# Altium integrated library Connectors$.IntLib: 58 symbols
Pins are listed as number, name and electrical type; pins without a type are passive.

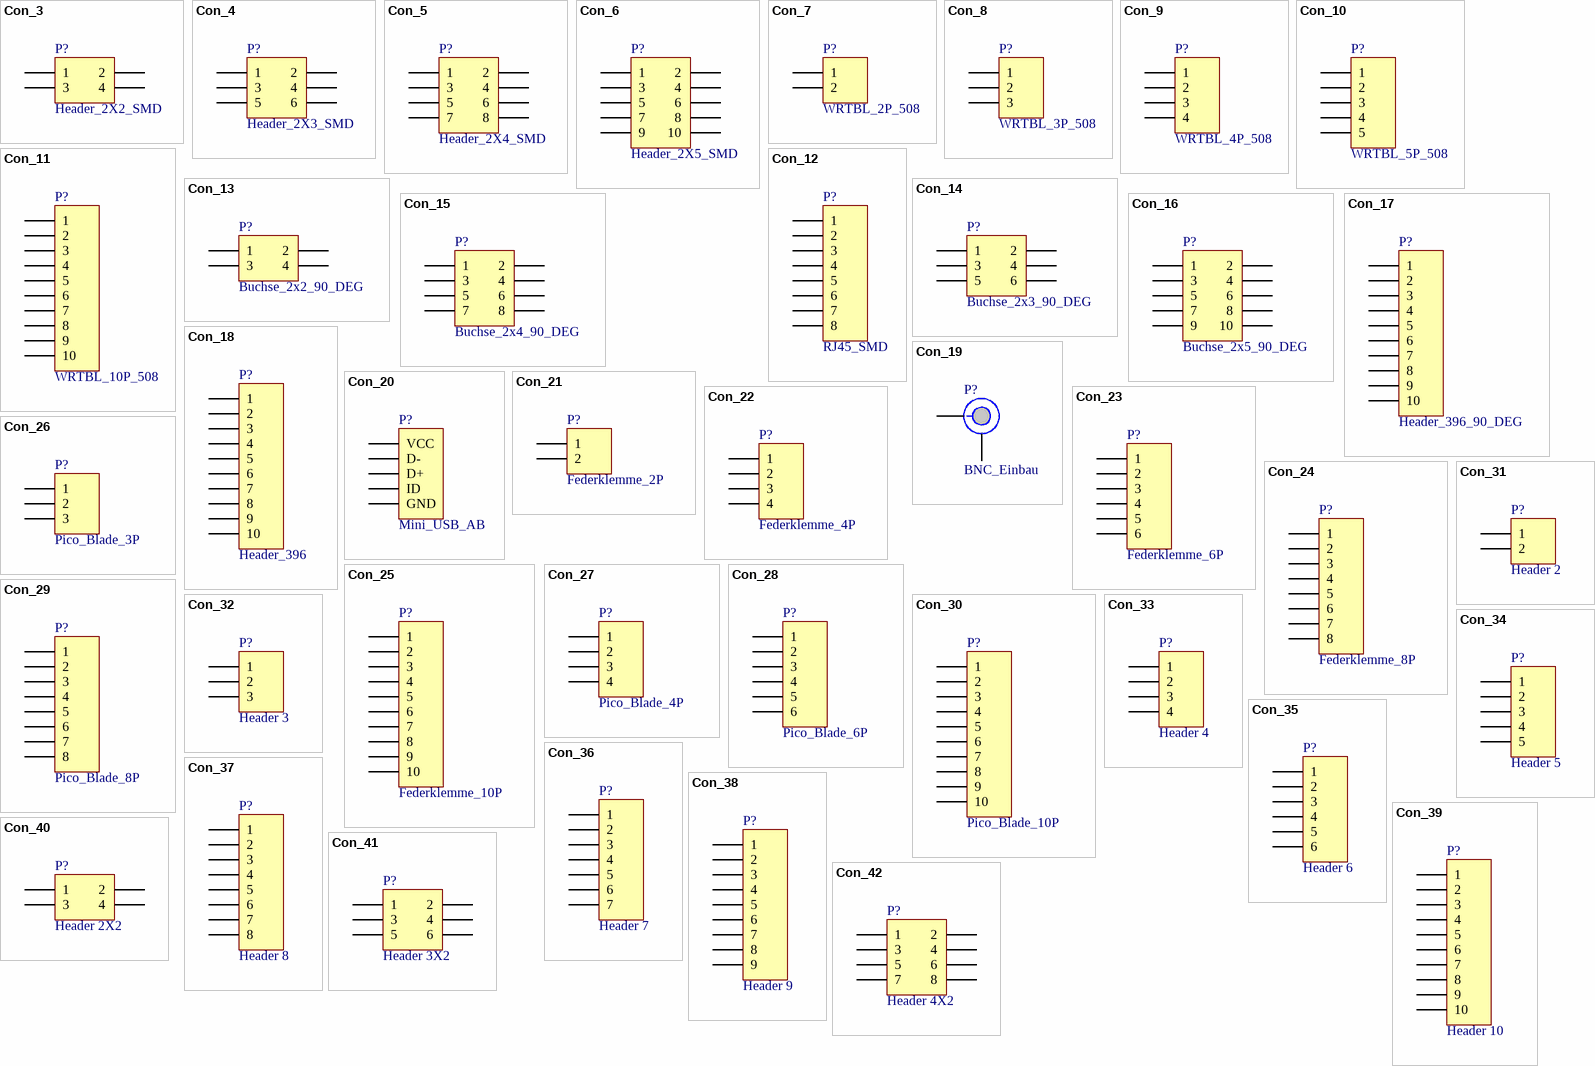
[diagram p0: symbols Con_3 to Con_42]

## Con_3
designator P?, comment Header_2X2_SMD
QR: 0; UID: Con_3; Name: Header_2X2_SMD; mounting: SMD; Pins: 4
footprint Header_2X2_SMD
pins: 1, 2, 3, 4

## Con_4
designator P?, comment Header_2X3_SMD
QR: 0; UID: Con_4; Name: Header_2X3_SMD; mounting: SMD; Pins: 6
footprint Header_2X3_SMD
pins: 1, 2, 3, 4, 5, 6

## Con_5
designator P?, comment Header_2X4_SMD
QR: 0; UID: Con_5; Name: Header_2X4_SMD; mounting: SMD; Pins: 8
footprint Header_2X4_SMD
pins: 1, 2, 3, 4, 5, 6, 7, 8

## Con_6
designator P?, comment Header_2X5_SMD
RS_number: 673-7332; QR: 0; UID: Con_6; Name: Header_2X5_SMD; Name_Hyperlink: Header 2x5-polig 5.8mm Bergstick; ComponentLink1URL: #NAME?; mounting: SMD; Pins: 10
footprint Header_2X5_SMD
pins: 1, 2, 3, 4, 5, 6, 7, 8, 9, 10

## Con_7
designator P?, comment WRTBL_2P_508
RS_number: 193-0586; QR: 0; UID: Con_7; Name: WRTBL_2P_508; Name_Hyperlink: Printklemme 5,08mm 2-polig; ComponentLink1URL: #NAME?; mounting: THT; Pins: 2
footprint WRTBL_2P_508
pins: 1, 2

## Con_8
designator P?, comment WRTBL_3P_508
QR: 0; UID: Con_8; Name: WRTBL_3P_508; mounting: THT; Pins: 3
footprint WRTBL_3P_508
pins: 1, 2, 3

## Con_9
designator P?, comment WRTBL_4P_508
QR: 0; UID: Con_9; Name: WRTBL_4P_508; mounting: THT; Pins: 4
footprint WRTBL_4P_508
pins: 1, 2, 3, 4

## Con_10
designator P?, comment WRTBL_5P_508
QR: 0; UID: Con_10; Name: WRTBL_5P_508; mounting: THT; Pins: 5
footprint WRTBL_5P_508
pins: 1, 2, 3, 4, 5

## Con_11
designator P?, comment WRTBL_10P_508
QR: 0; UID: Con_11; Name: WRTBL_10P_508; mounting: THT; Pins: 10
footprint WRTBL_10P_508
pins: 1, 2, 3, 4, 5, 6, 7, 8, 9, 10

## Con_12
designator P?, comment RJ45_SMD
QR: 0; UID: Con_12; Name: RJ45_SMD; mounting: SMD; Pins: 8
footprint RJ45_SMD
pins: 1, 2, 3, 4, 5, 6, 7, 8

## Con_13
designator P?, comment Buchse_2x2_90_DEG
QR: 0; UID: Con_13; Name: Buchse_2x2_90_DEG; mounting: SMD; Pins: 4
footprint BU_2x2_90_DEG
pins: 1, 2, 3, 4

## Con_14
designator P?, comment Buchse_2x3_90_DEG
QR: 0; UID: Con_14; Name: Buchse_2x3_90_DEG; mounting: SMD; Pins: 6
footprint BU_2x3_90_DEG
pins: 1, 2, 3, 4, 5, 6

## Con_15
designator P?, comment Buchse_2x4_90_DEG
QR: 0; UID: Con_15; Name: Buchse_2x4_90_DEG; mounting: SMD; Pins: 8
footprint BU_2x4_90_DEG
pins: 1, 2, 3, 4, 5, 6, 7, 8

## Con_16
designator P?, comment Buchse_2x5_90_DEG
RS_number: 673-7433; QR: 0; UID: Con_16; Name: Buchse_2x5_90_DEG; Name_Hyperlink: SMD Einbaubuchse 2x5-polig gewinkelt; ComponentLink1URL: #NAME?; mounting: SMD; Pins: 10
footprint BU_2x5_90_DEG
pins: 1, 2, 3, 4, 5, 6, 7, 8, 9, 10

## Con_17
designator P?, comment Header_396_90_DEG
RS_number: 473-593; QR: 0; UID: Con_17; Name: Header_396_90_DEG; Name_Hyperlink: Stiftleiste MFAS156 2,54 10-polig verr.; ComponentLink1URL: #NAME?; mounting: THT; Pins: 10
footprint HDR_396_90_DEG
pins: 1, 2, 3, 4, 5, 6, 7, 8, 9, 10

## Con_18
designator P?, comment Header_396
RS_number: 473-565; QR: 0; UID: Con_18; Name: Header_396; Name_Hyperlink: Stiftleiste MFSS156 2,54 10-polig; ComponentLink1URL: #NAME?; mounting: THT; Pins: 10
footprint HDR_396
pins: 1, 2, 3, 4, 5, 6, 7, 8, 9, 10

## Con_19
designator P?, comment BNC_Einbau
RS_number: 546-4049; QR: 0; UID: Con_19; Name: BNC_Einbau; Name_Hyperlink: BNC Einbau-Buchse 50Ohm; ComponentLink1URL: #NAME?; mounting: THT; Pins: 2
footprint BNC_EINBAU
pins: 0 GND, 1

## Con_20
designator P?, comment Mini_USB_AB
RS_number: 685-0961; QR: 0; UID: Con_20; Name: Mini_USB_AB; Name_Hyperlink: Steckerbuchse Micro-AB USB SMT; ComponentLink1URL: #NAME?; mounting: SMD; Pins: 5
footprint MINI_USB_ZX62-AB-5PA3
pins: 1 VCC, 2 D-, 3 D+, 4 ID, 5 GND

## Con_21
designator P?, comment Federklemme_2P
QR: 0; UID: Con_21; Name: Federklemme_2P; mounting: THT; Pins: 2
footprint FEDERKLEMME_PTSA_2P
pins: 1, 2

## Con_22
designator P?, comment Federklemme_4P
QR: 0; UID: Con_22; Name: Federklemme_4P; mounting: THT; Pins: 4
footprint FEDERKLEMME_PTSA_4P
pins: 1, 2, 3, 4

## Con_23
designator P?, comment Federklemme_6P
QR: 0; UID: Con_23; Name: Federklemme_6P; mounting: THT; Pins: 6
footprint FEDERKLEMME_PTSA_6P
pins: 1, 2, 3, 4, 5, 6

## Con_24
designator P?, comment Federklemme_8P
RS_number: 648-2234; QR: 0; UID: Con_24; Name: Federklemme_8P; Name_Hyperlink: Printklemmenblock PTSA 0,5/ 8-2,5-F; ComponentLink1URL: #NAME?; mounting: THT; Pins: 8
footprint FEDERKLEMME_PTSA_8P
pins: 1, 2, 3, 4, 5, 6, 7, 8

## Con_25
designator P?, comment Federklemme_10P
QR: 0; UID: Con_25; Name: Federklemme_10P; mounting: THT; Pins: 10
footprint FEDERKLEMME_PTSA_10P
pins: 1, 2, 3, 4, 5, 6, 7, 8, 9, 10

## Con_26
designator P?, comment Pico_Blade_3P
QR: 0; UID: Con_26; Name: Pico_Blade_3P; mounting: SMD; Pins: 3
footprint PICO_BLADE_3P
pins: 1, 2, 3

## Con_27
designator P?, comment Pico_Blade_4P
QR: 0; UID: Con_27; Name: Pico_Blade_4P; mounting: SMD; Pins: 4
footprint PICO_BLADE_4P
pins: 1, 2, 3, 4

## Con_28
designator P?, comment Pico_Blade_6P
QR: 0; UID: Con_28; Name: Pico_Blade_6P; mounting: SMD; Pins: 6
footprint PICO_BLADE_6P
pins: 1, 2, 3, 4, 5, 6

## Con_29
designator P?, comment Pico_Blade_8P
QR: 0; UID: Con_29; Name: Pico_Blade_8P; mounting: SMD; Pins: 8
footprint PICO_BLADE_8P
pins: 1, 2, 3, 4, 5, 6, 7, 8

## Con_30
designator P?, comment Pico_Blade_10P
QR: 0; UID: Con_30; Name: Pico_Blade_10P; mounting: SMD; Pins: 10
footprint PICO_BLADE_10P
pins: 1, 2, 3, 4, 5, 6, 7, 8, 9, 10

## Con_31
designator P?, comment Header 2
QR: 0; UID: Con_31; Name: Header 2; mounting: THT; Pins: 1X2
footprint HDR1X2
pins: 1, 2

## Con_32
designator P?, comment Header 3
QR: 0; UID: Con_32; Name: Header 3; mounting: THT; Pins: 1X3
footprint HDR1X3
pins: 1, 2, 3

## Con_33
designator P?, comment Header 4
QR: 0; UID: Con_33; Name: Header 4; mounting: THT; Pins: 1X4
footprint HDR1X4
pins: 1, 2, 3, 4

## Con_34
designator P?, comment Header 5
QR: 0; UID: Con_34; Name: Header 5; mounting: THT; Pins: 1X5
footprint HDR1X5
pins: 1, 2, 3, 4, 5

## Con_35
designator P?, comment Header 6
QR: 0; UID: Con_35; Name: Header 6; mounting: THT; Pins: 1X6
footprint HDR1X6
pins: 1, 2, 3, 4, 5, 6

## Con_36
designator P?, comment Header 7
QR: 0; UID: Con_36; Name: Header 7; mounting: THT; Pins: 1X7
footprint HDR1X7
pins: 1, 2, 3, 4, 5, 6, 7

## Con_37
designator P?, comment Header 8
QR: 0; UID: Con_37; Name: Header 8; mounting: THT; Pins: 1X8
footprint HDR1X8
pins: 1, 2, 3, 4, 5, 6, 7, 8

## Con_38
designator P?, comment Header 9
QR: 0; UID: Con_38; Name: Header 9; mounting: THT; Pins: 1X9
footprint HDR1X9
pins: 1, 2, 3, 4, 5, 6, 7, 8, 9

## Con_39
designator P?, comment Header 10
QR: 0; UID: Con_39; Name: Header 10; mounting: THT; Pins: 1X10
footprint HDR1X10
pins: 1, 2, 3, 4, 5, 6, 7, 8, 9, 10

## Con_40
designator P?, comment Header 2X2
QR: 0; UID: Con_40; Name: Header 2X2; mounting: THT; Pins: 2X2
footprint HDR2X2
pins: 1, 2, 3, 4

## Con_41
designator P?, comment Header 3X2
QR: 0; UID: Con_41; Name: Header 3X2; mounting: THT; Pins: 2X3
footprint HDR2X3
pins: 1, 2, 3, 4, 5, 6

## Con_42
designator P?, comment Header 4X2
QR: 0; UID: Con_42; Name: Header 4X2; mounting: THT; Pins: 2X4
footprint HDR2X4
pins: 1, 2, 3, 4, 5, 6, 7, 8

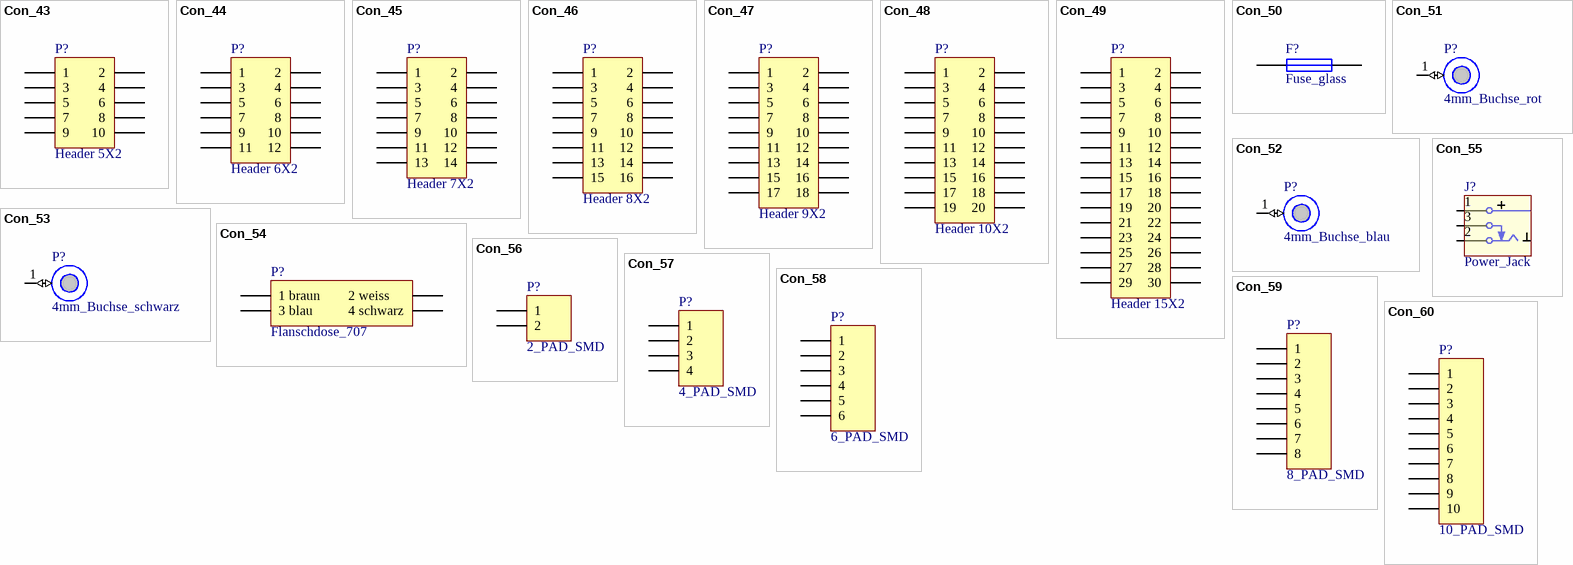
[diagram p1: symbols Con_43 to Con_60]

## Con_43
designator P?, comment Header 5X2
QR: 0; UID: Con_43; Name: Header 5X2; mounting: THT; Pins: 2X5
footprint HDR2X5
pins: 1, 2, 3, 4, 5, 6, 7, 8, 9, 10

## Con_44
designator P?, comment Header 6X2
QR: 0; UID: Con_44; Name: Header 6X2; mounting: THT; Pins: 2X6
footprint HDR2X6
pins: 1, 2, 3, 4, 5, 6, 7, 8, 9, 10, 11, 12

## Con_45
designator P?, comment Header 7X2
QR: 0; UID: Con_45; Name: Header 7X2; mounting: THT; Pins: 2X7
footprint HDR2X7
pins: 1, 2, 3, 4, 5, 6, 7, 8, 9, 10, 11, 12, 13, 14

## Con_46
designator P?, comment Header 8X2
QR: 0; UID: Con_46; Name: Header 8X2; mounting: THT; Pins: 2X8
footprint HDR2X8
pins: 1, 2, 3, 4, 5, 6, 7, 8, 9, 10, 11, 12, 13, 14, 15, 16

## Con_47
designator P?, comment Header 9X2
QR: 0; UID: Con_47; Name: Header 9X2; mounting: THT; Pins: 2X9
footprint HDR2X9
pins: 1, 2, 3, 4, 5, 6, 7, 8, 9, 10, 11, 12, 13, 14, 15, 16, 17, 18

## Con_48
designator P?, comment Header 10X2
QR: 0; UID: Con_48; Name: Header 10X2; mounting: THT; Pins: 2X10
footprint HDR2X10
pins: 1, 2, 3, 4, 5, 6, 7, 8, 9, 10, 11, 12, 13, 14, 15, 16, 17, 18, 19, 20

## Con_49
designator P?, comment Header 15X2
QR: 0; UID: Con_49; Name: Header 15X2; mounting: THT; Pins: 2X15
footprint HDR2X15
pins: 1, 2, 3, 4, 5, 6, 7, 8, 9, 10, 11, 12, 13, 14, 15, 16, 17, 18, 19, 20, 21, 22, 23, 24, 25, 26, 27, 28, 29, 30

## Con_50
designator F?, comment Fuse_glass
QR: 0; UID: Con_50; Name: Fuse_glass; mounting: THT; Pins: 2
footprint FUSE_GLASS
pins: 1, 2

## Con_51
designator P?, comment 4mm_Buchse_rot
QR: 0; UID: Con_51; Name: 4mm_Buchse_rot; mounting: THT; Pins: 1
footprint 4MM_BUCHSE_ROT
pins: 1 GND (io)

## Con_52
designator P?, comment 4mm_Buchse_blau
QR: 0; UID: Con_52; Name: 4mm_Buchse_blau; mounting: THT; Pins: 1
footprint 4MM_BUCHSE_BLAU
pins: 1 GND (io)

## Con_53
designator P?, comment 4mm_Buchse_schwarz
QR: 0; UID: Con_53; Name: 4mm_Buchse_schwarz; mounting: THT; Pins: 1
footprint 4MM_BUCHSE_SCHWARZ
pins: 1 GND (io)

## Con_54
designator P?, comment Flanschdose_707
QR: 0; UID: Con_54; Name: Flanschdose_707; mounting: THT; Pins: 4
footprint FLANSCHDOSE_707
pins: 1 1 braun, 2 2 weiss    , 3 3 blau, 4 4 schwarz

## Con_55
designator J?, comment Power_Jack
RS_number: 487-848; QR: 0; UID: Con_55; Name: Power_Jack; Name_Hyperlink: http://at.rs-online.com/web/p/dc-buchsen/0487848/; ComponentLink1URL: #NAME?; mounting: THT; Pins: 3
footprint POWER_JACK
pins: 1, 2, 3

## Con_56
designator P?, comment 2_PAD_SMD
QR: 0; UID: Con_56; Name: 2_PAD_SMD; mounting: SMD; Pins: 2
footprint 2_PAD_SMD
pins: 1, 2

## Con_57
designator P?, comment 4_PAD_SMD
QR: 0; UID: Con_57; Name: 4_PAD_SMD; mounting: SMD; Pins: 4
footprint 4_PAD_SMD
pins: 1, 2, 3, 4

## Con_58
designator P?, comment 6_PAD_SMD
QR: 0; UID: Con_58; Name: 6_PAD_SMD; mounting: SMD; Pins: 6
footprint 6_PAD_SMD
pins: 1, 2, 3, 4, 5, 6

## Con_59
designator P?, comment 8_PAD_SMD
QR: 0; UID: Con_59; Name: 8_PAD_SMD; mounting: SMD; Pins: 8
footprint 8_PAD_SMD
pins: 1, 2, 3, 4, 5, 6, 7, 8

## Con_60
designator P?, comment 10_PAD_SMD
QR: 0; UID: Con_60; Name: 10_PAD_SMD; mounting: SMD; Pins: 10
footprint 10_PAD_SMD
pins: 1, 2, 3, 4, 5, 6, 7, 8, 9, 10